# Altium footprint library 3313J-1-503E.PcbLib: 2 footprints
Each footprint in its own frame and in the unit in brackets; x right, y up, seen from the top. Pads: shape width x height; smd on the part's side, far side on the other; paste and mask are expansions set on the pad; w line width, h text height; cw(c..) or ccw(c..) is an arc to the next point about the centre after c.
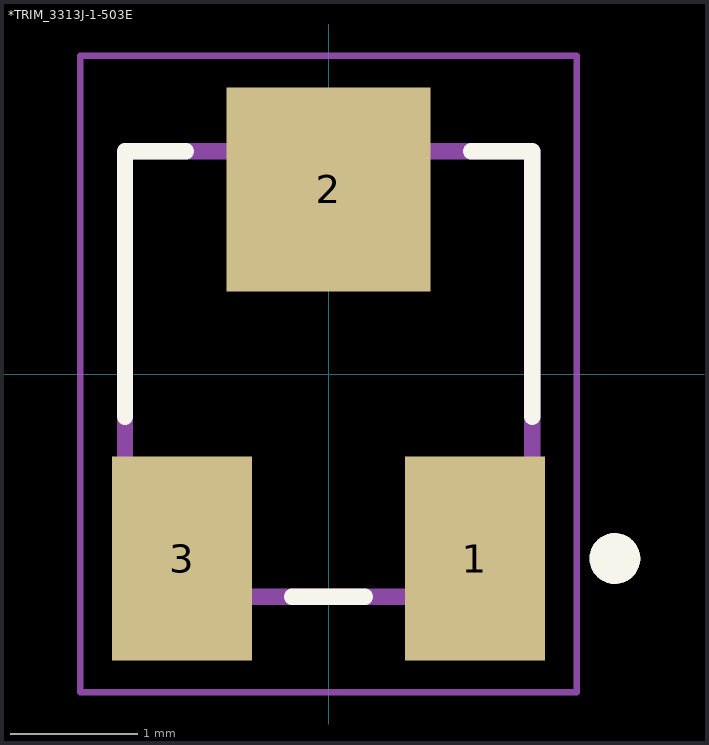
[diagram p0: the footprints below, top view; thin cyan lines are the x and y axes]

## *TRIM_3313J-1-503E [mm]
pads (3):
  rect 1.1x1.6 smd: 1(1.15,-1.45) 3(-1.15,-1.45)
  rect 1.6x1.6 smd: 2(0,1.45)
Top Overlay:
  circle w0.2: c2.25,-1.45 r0.1
  lines w0.127: -1.6,-0.336 -1.6,1.75 -1.12,1.75 ; -0.286,-1.75 0.286,-1.75 ; 1.12,1.75 1.6,1.75 1.6,-0.336
Mechanical 4:
  circle w0.2: c2.25,-1.45 r0.1
  circle w0.2: c2.25,-1.45 r0.1
  lines w0.127: -1.6,-1.75 -1.6,1.75 ; -1.6,-1.75 1.6,-1.75 ; -1.6,-1.75 -1.6,1.75 ; -1.6,-1.75 1.6,-1.75 ; -1.6,1.75 1.6,1.75 ; -1.6,1.75 1.6,1.75 ; 1.6,-1.75 1.6,1.75 ; 1.6,-1.75 1.6,1.75
Mechanical 16:
  lines w0.05: -1.95,-2.5 1.95,-2.5 1.95,2.5 -1.95,2.5 -1.95,-2.5

## PCBComponent_1 [mm]